# EAGLE library part EPIC-PROG-PORT (library berkeley-epic)
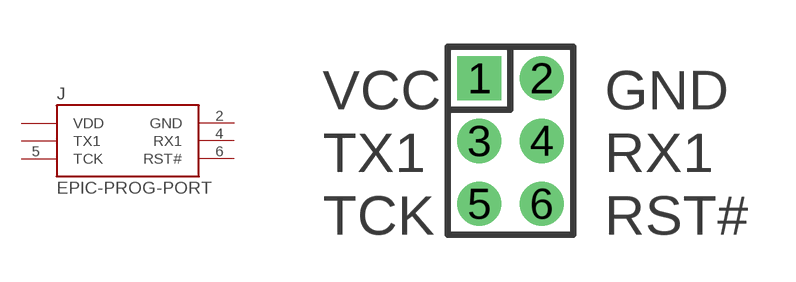
[diagram p4: symbol with the pads of HEADER2X3X2MM; footprint HEADER2X3X2MM]

Designator prefix J

## EPIC-PROG-PORT  [HEADER2X3X2MM]
1  VDD
2  GND
3  TX1
4  RX1
5  TCK
6  RST#

## Footprint HEADER2X3X2MM (pad centres in mm)
drill 0.9 square: 1 -1,2
drill 0.9: 2 1,2; 3 -1,0; 4 1,0; 5 -1,-2; 6 1,-2